# Altium footprint library TO_Through.PcbLib: 17 footprints (part 1 of 2)
Each footprint in its own frame and in the unit in brackets; x right, y up, seen from the top. Pads: shape width x height; smd on the part's side, far side on the other; paste and mask are expansions set on the pad; w line width, h text height; cw(c..) or ccw(c..) is an arc to the next point about the centre after c.
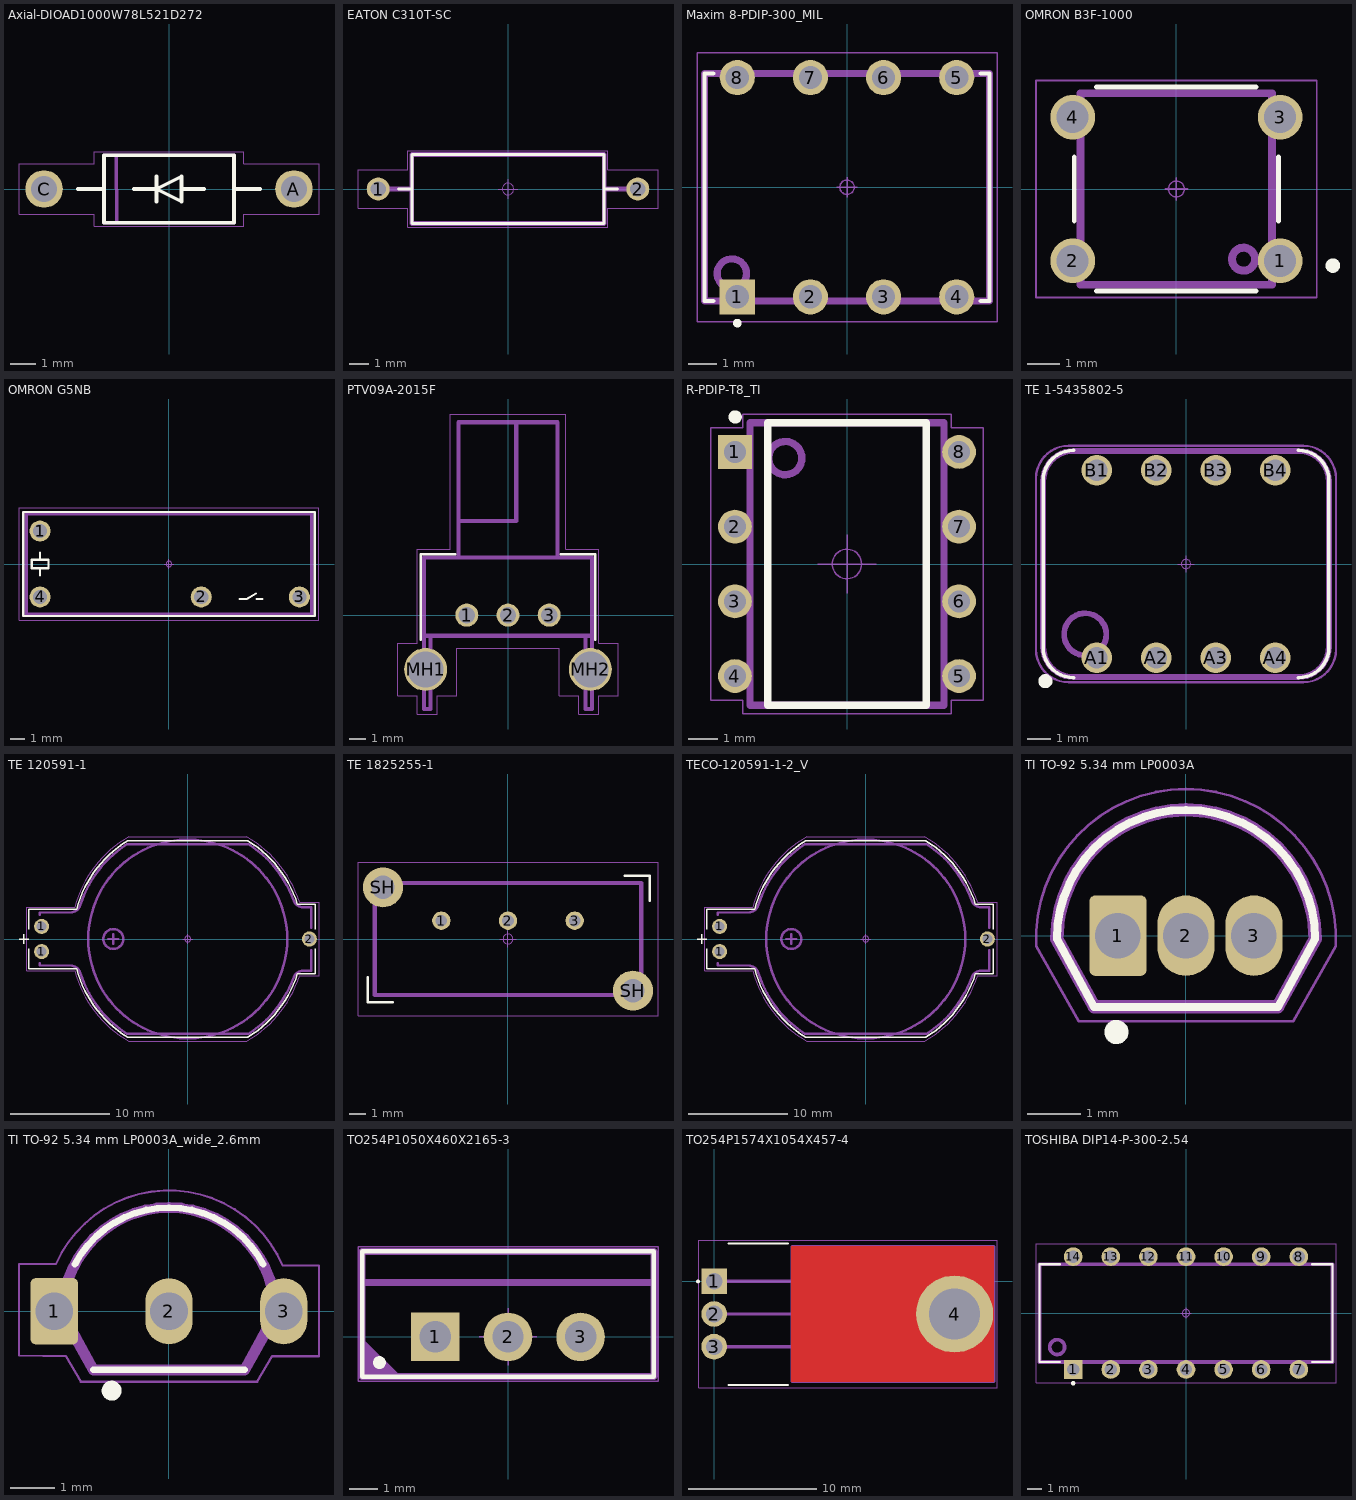
[diagram p0: the footprints below, top view; thin cyan lines are the x and y axes]

## Axial-DIOAD1000W78L521D272 [mm] "Diode, Axial; 10.0 mm Pitch X 0.78 mm W 5.21 mm L X 2.72 mm Dia. body"
height 5.3
pads (2):
  round 1.5 hole 1.05: A(5,0) C(-5,0)
Top Overlay:
  lines w0.15: -3.65,0 -2.6,0 ; -1.4,0 -0.5,0 ; -0.5,-0.5 -0.5,0 ; -0.5,0.5 -0.5,0 ; 0.5,0 1.4,0 ; 2.6,0 3.65,0 ; -0.5,0 0.5,0.5 0.5,-0.5 -0.5,0 ; -2.6,-1.35 2.6,-1.35 2.6,1.35 -2.6,1.35 -2.6,-1.35
Top Assembly:
  lines w0.15: -2.108,1.35 -2.092,-1.35 ; -2.6,-1.35 2.6,-1.35 2.6,1.35 -2.6,1.35 -2.6,-1.35
  text ".Designator" at -1.9,-0.518 h1.5
Top Courtyard:
  lines w0.05: -6,-1 -6,1 -3,1 -3,1.5 3,1.5 3,1 6,1 6,-1 3,-1 3,-1.5 -3,-1.5 -3,-1 -6,-1
3D body "User Library-DO-41 10mm.STEP": height 4.36, standoff -1, extent -5.45,-1.362 5.41,1.362

## EATON C310T-SC [mm] "3.6 mm x 10 mm pitch 13.5 mm"
height 3.6
pads (2):
  round 1.2 hole 0.8: 1(-6.75,0) 2(6.75,0)
Top Overlay:
  lines w0.15: -5.7,0 -5,0 ; 5,0 5.7,0 ; -5,-1.8 5,-1.8 5,1.8 -5,1.8 -5,-1.8
Top Assembly:
  lines w0.25: -6.75,0 -5,0 ; 5,0 6.75,0 ; -5,-1.8 5,-1.8 5,1.8 -5,1.8 -5,-1.8
  text ".Designator" at -3.378,-0.339 h1.5
Top Courtyard:
  circle w0.05: c0,0 r0.3
  lines w0.05: -0.5,0 0.5,0 ; 0,-0.5 0,0.5 ; -7.8,-1 -7.8,1 -5.2,1 -5.2,2 5.2,2 5.2,1 7.8,1 7.8,-1 5.2,-1 5.2,-2 -5.2,-2 -5.2,-1 -7.8,-1
3D body "Fuse C310T-SC.STEP": height 3.6, standoff -2, extent -7.043,-1.806 7.057,1.794

## Maxim 8-PDIP-300_MIL [mm] "DIP, 7.62 mm lead span, 2.54 mm pitch; 8 pin, 9.91 mm L X 7.87 mm W X 4.572 mm H body"
height 4.572
pads (8):
  rect 1.22x1.22 / inner round 1.22 / far side rect 1.22x1.22 hole 0.81 paste-2539.97: 1(-3.81,-3.81)
  round 1.22 hole 0.81 paste-2539.97: 2(-1.27,-3.81) 3(1.27,-3.81) 4(3.81,-3.81) 5(3.81,3.81) 6(1.27,3.81) 7(-1.27,3.81) 8(-3.81,3.81)
Top Overlay:
  circle w0.15: c-3.81,-4.72 r0.075
  lines w0.15: -4.65,-3.95 -4.95,-3.95 -4.95,3.95 -4.65,3.95 ; 4.65,-3.95 4.95,-3.95 4.95,3.95 4.65,3.95
Top Assembly:
  circle w0.25: c-4,-3 r0.51
  lines w0.25: -4.95,-3.95 4.95,-3.95 4.95,3.95 -4.95,3.95 -4.95,-3.95
  text ".Designator" at -3.378,-0.339 h1.5
Top Courtyard:
  circle w0.05: c0,0 r0.25
  lines w0.05: -0.35,0 0.35,0 ; 0,-0.35 0,0.35 ; -5.21,-4.67 5.21,-4.67 5.21,4.67 -5.21,4.67 -5.21,-4.67
3D body "MAX764EPA.STEP": height 4.57, standoff -3.81, extent -4.955,-3.915 4.955,3.915

## OMRON B3F-1000 [mm] "Tactile Switch 6x6x4.3, Ivory"
height 4.3
pads (4):
  round 1.4 hole 1 paste-2539.97: 1(3.25,-2.25) 2(-3.25,-2.25) 3(3.25,2.25) 4(-3.25,2.25)
Top Overlay:
  circle w0.25: c4.9,-2.4 r0.1
  lines w0.15: -3.2,-1 -3.2,1 ; -2.5,-3.2 2.5,-3.2 ; -2.5,3.2 2.5,3.2 ; 3.2,-1 3.2,1
Top Assembly:
  circle w0.25: c2.1,-2.2 r0.361
  lines w0.25: -3,-3 3,-3 3,3 -3,3 -3,-3
  text ".Designator" at -3.378,-0.339 h1.5
Top Courtyard:
  circle w0.05: c0,0 r0.25
  lines w0.05: -0.35,0 0.35,0 ; 0,-0.35 0,0.35 ; -4.4,-3.4 4.4,-3.4 4.4,3.4 -4.4,3.4 -4.4,-3.4
3D body "B3F_1000.STEP": height 4.31, standoff -3.49, extent -3.847,-2.965 3.853,3.035

## OMRON G5NB [mm] "4 pin Relay 20.4x7.0x15.0"
height 15.3
pads (4):
  round 1.5 hole 1 paste-2539.97: 1(-9.2,2.35) 2(2.3,-2.35) 3(9.3,-2.35) 4(-9.2,-2.35)
Top Overlay:
  lines w0.15: -9.193,-0.8 -9.193,-0.4 ; -9.193,0.3 -9.193,0.8 ; 5.05,-2.5 5.55,-2.5 6.202,-2.112 ; 6.25,-2.5 6.65,-2.5 ; -10.4,-3.7 10.4,-3.7 10.4,3.7 -10.4,3.7 -10.4,-3.7 ; -9.793,-0.3 -9.793,0.3 -8.593,0.3 -8.593,-0.3 -9.793,-0.3
Top Assembly:
  lines w0.25: -10.2,-3.6 -10.2,3.6 10.2,3.6 10.2,-3.6 -10.2,-3.6
  text ".Designator" at -3.378,-0.339 h1.5
Top Courtyard:
  circle w0.05: c0,0 r0.2
  lines w0.05: -0.35,0 0.35,0 ; 0,-0.35 0,0.35 ; -10.7,-4 -10.7,4 10.7,4 10.7,-4 -10.7,-4
3D body "Omron G5NB.STEP": height 15, standoff -3.4, extent -10.25,-3.5 10.25,3.5

## PTV09A-2015F [mm] "Bourns Vertical/Side Mount,  Bushingless, 10 mm Height"
height 15.5
pads (5):
  round 1.4 hole 1: 1(-2.5,0) 2(0,0) 3(2.5,0)
  round 2.6 hole 2.2 unplated: MH1(-5,-3.3) MH2(5,-3.3)
Top Overlay:
  lines w0.15: -5.3,-1.5 -5.3,3.7 -3.2,3.7 ; 3.2,3.7 5.3,3.7 5.3,-1.5
Top Assembly:
  lines w0.25: -5.1,-1.25 5.1,-1.25 ; -4.7,-1.25 -4.7,-5.7 -5.1,-5.7 -5.1,3.5 5.1,3.5 5.1,-5.7 4.7,-5.7 4.7,-1.25 ; -3,3.5 -3,11.7 3,11.7 3,3.5 ; -3,5.7 0.5,5.7 0.5,11.7
  text ".Designator" at -4,0.47 h2.5
Top Courtyard:
  circle w0.05: c0,0 r0.2
  lines w0.05: -0.35,0 0.35,0 ; 0,-0.35 0,0.35 ; -6.7,-4.9 -6.7,-1.7 -5.5,-1.7 -5.5,4 -3.5,4 -3.5,12.2 3.5,12.2 3.5,4 5.5,4 5.5,-1.7 6.7,-1.7 6.7,-4.9 5.5,-4.9 5.5,-6 4.3,-6 4.3,-4.9 3.1,-4.9 3.1,-2 -3.1,-2 -3.1,-4.9 -4.3,-4.9 -4.3,-6 -5.5,-6 -5.5,-4.9 -6.7,-4.9
3D body "PTV09A-2015F.STEP": height 15.5, standoff -3.85, extent -5.15,-5.7 5.15,11.6

## R-PDIP-T8_TI [mm]
height 5.08
pads (8):
  rect 1.15x1.15 / inner round 1.15 / far side round 1.15 hole 0.75: 1(-3.81,3.81)
  round 1.15 hole 0.75: 2(-3.81,1.27) 3(-3.81,-1.27) 4(-3.81,-3.81) 5(3.81,-3.81) 6(3.81,-1.27) 7(3.81,1.27) 8(3.81,3.81)
Top Overlay:
  circle w0.25: c-3.8,5 r0.1
  lines w0.25: -2.7,-4.8 2.7,-4.8 2.7,4.8 -2.7,4.8 -2.7,-4.8
Top Assembly:
  circle w0.25: c-2.1,3.6 r0.566
  lines w0.25: -3.3,-4.8 3.3,-4.8 3.3,4.8 -3.3,4.8 -3.3,-4.8
  text ".Designator" at -2.6,-0.318 h1.5
Top Courtyard:
  circle w0.05: c0,0 r0.5
  lines w0.05: -1,0 1,0 ; 0,-1 0,1 ; -4.635,-4.635 -4.635,4.635 -3.55,4.635 -3.55,5.1 3.55,5.1 3.55,4.635 4.635,4.635 4.635,-4.635 3.55,-4.635 3.55,-5.1 -3.55,-5.1 -3.55,-4.635 -4.635,-4.635
3D body "P0008A.stp": height 4.21, standoff -3.37, extent -4.102,-4.635 4.102,4.635

## TE 1-5435802-5 [mm] "RIGHT ANGLE DIP SW 4 P SEALED"
height 7.4
pads (8):
  round 1.3 hole 0.9: A1(-3.81,-4) A2(-1.27,-4) A3(1.27,-4) A4(3.81,-4) B1(-3.81,4) B2(-1.27,4) B3(1.27,4) B4(3.81,4)
Top Overlay:
  circle w0.5: c-6,-5 r0.05
  lines w0.15: -4.8,-4.85 cw(c-4.8,-3.55) -6.1,-3.55 -6.1,3.55 cw(c-4.8,3.55) -4.8,4.85 ; 4.8,-4.85 ccw(c4.8,-3.55) 6.1,-3.55 6.1,3.55 ccw(c4.8,3.55) 4.8,4.85
Top Assembly:
  circle w0.25: c-4.3,-3 r0.9
  lines w0.25: -6.095,-3.526 ccw(c-4.795,-3.526) -4.795,-4.826 4.795,-4.826 ccw(c4.795,-3.526) 6.095,-3.526 6.095,3.526 ccw(c4.795,3.526) 4.795,4.826 -4.795,4.826 ccw(c-4.795,3.526) -6.095,3.526 -6.095,-3.526
  text ".Designator" at -3.378,-0.339 h1.5
Top Courtyard:
  circle w0.05: c0,0 r0.2
  lines w0.05: -0.35,0 0.35,0 ; 0,-0.35 0,0.35
  lines w0.1: -6.4,-3.65 ccw(c-5,-3.65) -5,-5.05 5,-5.05 ccw(c5,-3.65) 6.4,-3.65 6.4,3.65 ccw(c5,3.65) 5,5.05 -5,5.05 ccw(c-5,3.65) -6.4,3.65 -6.4,-3.65
3D body "c-1-5435802-5-c-3d_colors.STEP": height 7.37, standoff -3.42, extent -6.095,-4.826 6.095,4.826

## TE 120591-1 [mm] "Lithium Battery Holder, CR2032, 2 Position, Horizontal, Tin, PCB Mount Alignment"
height 6.5
pads (3):
  round 1.52 hole 1.02: 1(-14.69,-1.27) 1(-14.69,1.27) 2(12.23,0)
Top Overlay:
  lines w0.15: -16.97,0 -15.97,0 ; -16.47,-0.5 -16.47,0.5 ; -16,-1 -16,-2.997 -11.183,-2.997 ccw(c0,0) -6.045,-9.874 6.045,-9.874 ccw(c0,0) 11.036,-3.5 12.8,-3.5 12.8,-1 ; -16,1 -16,2.997 -11.183,2.997 cw(c0,0) -6.045,9.874 6.045,9.874 cw(c0,0) 11.036,3.5 12.8,3.5 12.8,1
Top Assembly:
  circle w0.25: c0,0 r10
  circle w0.25: c-7.48,0 r1
  lines w0.25: -14.88,-2.414 -14.88,-2.665 -11.787,-2.665 cw(c-11.787,-3.685) -10.802,-3.421 ccw(c0,0) -6.135,-9.525 6.135,-9.525 ccw(c0,0) 10.644,-3.883 cw(c11.615,-4.195) 11.615,-3.175 12.42,-3.175 12.42,-1.144 ; -14.88,2.414 -14.88,2.665 -11.787,2.665 ccw(c-11.787,3.685) -10.802,3.421 ; -10.801,3.421 cw(c0.001,0) -6.135,9.525 ; -7.98,0 -6.98,0 ; -7.48,-0.5 -7.48,0.5 ; -6.135,9.525 6.135,9.525 cw(c0,0) 10.644,3.883 ccw(c11.615,4.195) 11.615,3.175 12.42,3.175 12.42,1.144
Top Courtyard:
  circle w0.05: c0,0 r0.3
  lines w0.05: -0.5,0 0.5,0 ; 0,-0.5 0,0.5 ; 11.239,-3.703 cw(c0.203,-0.203) 5.914,-10.274 -5.915,-10.274 cw(c-0.203,-0.203) -11.387,-3.2 -16.2,-3.2 -16.2,3.2 -11.387,3.2 cw(c-0.203,0.203) -5.915,10.274 5.914,10.274 cw(c0.203,0.203) 11.239,3.703 ; 11.239,-3.7 13.2,-3.7 13.2,3.7 11.239,3.7
3D body "120591-1_colors.STEP": height 6.41, standoff -3.04, extent -14.88,-9.525 12.425,9.525

## TE 1825255-1 [mm] "Slide Switches, Single Pole - Double Throw Configuration (Pole-Throw), Vertical, Copper Alloy, Single Actuator, 2 Position, On None On"
pads (5):
  round 1.1 hole 0.7: 1(-4,1.1) 2(0,1.1) 3(4,1.1)
  round 2.4 hole 1.4: SH(-7.5,3.1) SH(7.5,-3.1)
Top Overlay:
  lines w0.15: -8.4,-2.3 -8.4,-3.8 -6.9,-3.8 ; 7,3.8 8.5,3.8 8.5,2.3
Top Assembly:
  lines w0.25: -8,-3.35 8,-3.35 8,3.35 -8,3.35 -8,-3.35
  text ".Designator" at -3.378,-0.339 h1.5
Top Courtyard:
  circle w0.05: c0,0 r0.3
  lines w0.05: -0.5,0 0.5,0 ; 0,-0.5 0,0.5 ; -9,-4.6 9,-4.6 9,4.6 -9,4.6 -9,-4.6
3D body "c-1825255-1-b-3d_colors.STEP": height 12.01, standoff -3.49, extent -8,-3.35 8,3.35

## TECO-120591-1-2_V [mm] "Lithium Battery Holder"
height 6.5
pads (3):
  round 1.52 hole 1.02: 1(-14.69,-1.27) 1(-14.69,1.27) 2(12.23,0)
Top Overlay:
  lines w0.15: -16.97,0 -15.97,0 ; -16.47,-0.5 -16.47,0.5 ; -16,-1 -16,-2.997 -11.183,-2.997 ccw(c0,0) -6.045,-9.874 6.045,-9.874 ccw(c0,0) 11.036,-3.5 12.8,-3.5 12.8,-1 ; -16,1 -16,2.997 -11.183,2.997 cw(c0,0) -6.045,9.874 6.045,9.874 cw(c0,0) 11.036,3.5 12.8,3.5 12.8,1
Top Assembly:
  circle w0.25: c-7.48,0 r1
  circle w0.25: c0,0 r10
  lines w0.25: -14.88,-2.414 -14.88,-2.665 -11.787,-2.665 cw(c-11.787,-3.685) -10.802,-3.421 ccw(c0,0) -6.135,-9.525 6.135,-9.525 ccw(c0,0) 10.644,-3.883 cw(c11.615,-4.195) 11.615,-3.175 12.42,-3.175 12.42,-1.144 ; -14.88,2.414 -14.88,2.665 -11.787,2.665 ccw(c-11.787,3.685) -10.802,3.421 ; -10.801,3.421 cw(c0.001,0) -6.135,9.525 ; -7.98,0 -6.98,0 ; -7.48,-0.5 -7.48,0.5 ; -6.135,9.525 6.135,9.525 cw(c0,0) 10.644,3.883 ccw(c11.615,4.195) 11.615,3.175 12.42,3.175 12.42,1.144
Top Courtyard:
  circle w0.05: c0,0 r0.3
  lines w0.05: -0.5,0 0.5,0 ; 0,-0.5 0,0.5 ; 11.239,-3.703 cw(c0.203,-0.203) 5.914,-10.274 -5.915,-10.274 cw(c-0.203,-0.203) -11.387,-3.2 -16.2,-3.2 -16.2,3.2 -11.387,3.2 cw(c-0.203,0.203) -5.915,10.274 5.914,10.274 cw(c0.203,0.203) 11.239,3.703 ; 11.239,-3.7 13.2,-3.7 13.2,3.7 11.239,3.7
3D body "120591-1_colors.STEP": height 6.41, standoff -3.04, extent -14.88,-9.525 12.425,9.525

## TI TO-92 5.34 mm LP0003A [mm]
pads (3):
  rrect20% 1.07x1.5 hole 0.85 paste-2539.97: 1(-1.27,0)
  oval 1.07x1.5 hole 0.85 paste-2539.97: 2(0,0) 3(1.27,0)
Top Overlay:
  circle w0.25: c-1.3,-1.8 r0.1
  lines w0.15: -2.412,-0.063 cw(c0,-0.062) 2.413,-0.063 1.715,-1.33 -1.715,-1.33 -2.412,-0.063
Top Assembly:
  lines w0.25: -2.412,-0.063 cw(c0,-0.062) 2.413,-0.063 1.715,-1.33 -1.715,-1.33 -2.412,-0.063
  text ".Designator" at -3.378,-0.339 h1.5
Top Courtyard:
  circle w0.05: c0,0 r0.3
  lines w0.05: -2.8,-0.201 -2,-1.6 2,-1.6 2.8,-0.201 ; -2.798,-0.201 cw(c0,-0.062) 2.798,-0.2 ; -0.5,0 0.5,0 ; 0,-0.5 0,0.5
3D body "LM337LZ_LFT3.STEP": height 7.88, standoff -10.16, extent -2.412,-1.33 2.413,2.35

## TI TO-92 5.34 mm LP0003A_wide_2.6mm [mm]
pads (3):
  rrect20% 1.07x1.5 hole 0.85 paste-2539.97: 1(-2.6,0)
  oval 1.07x1.5 hole 0.85 paste-2539.97: 2(0,0) 3(2.6,0)
Top Overlay:
  circle w0.25: c-1.3,-1.8 r0.1
  lines w0.15: -2.133,1.065 cw(c0,-0.062) 2.133,1.065 ; -1.715,-1.33 1.715,-1.33
Top Assembly:
  lines w0.25: -2.412,-0.063 cw(c0,-0.062) 2.413,-0.063 1.715,-1.33 -1.715,-1.33 -2.412,-0.063
  text ".Designator" at -3.378,-0.339 h1.5
Top Courtyard:
  circle w0.05: c0,0 r0.3
  lines w0.05: -0.5,0 0.5,0 ; 0,-0.5 0,0.5 ; -3.4,-1 -2.332,-1.018 -2,-1.6 2,-1.6 2.332,-1.018 3.4,-1.018 3.4,1.039 2.576,1.039 ccw(c0,-0.062) -2.563,1.069 -3.4,1.069 -3.4,-1
3D body "LM337LZ_WIDE_2.6mm.STEP": height 9.34, standoff -8.7, extent -2.835,-1.33 2.835,2.35

## TO254P1050X460X2165-3 [mm] "TO-220 Vertical"
height 21.1
pads (3):
  rect 1.7x1.7 hole 1.1: 1(-2.54,0)
  round 1.7 hole 1.1: 2(0,0) 3(2.54,0)
Top Overlay:
  circle w0.25: c-4.5,-0.9 r0.1
  lines w0.15: -5.1,-1.4 -5.1,3 5.1,3 5.1,-1.4 -5.1,-1.4
Top Assembly:
  region: -5.11,-1.39 -5.11,-0.024 -3.8,-1.334 -3.8,-1.4
  lines w0.25: -5.11,1.9 5.11,1.9 ; -5.11,-1.39 -5.11,2.99 5.11,2.99 5.11,-1.39 -5.11,-1.39
  text ".Designator" at -3.378,-0.339 h1.5
Top Courtyard:
  circle w0.05: c0,0 r0.5
  lines w0.05: -1,0 1,0 ; 0,-1 0,1 ; -5.25,-1.55 5.25,-1.55 5.25,3.15 -5.25,3.15 -5.25,-1.55
3D body "LTC1085CT.STEP": height 21.21, standoff -9.37, extent -5.112,-1.486 5.112,2.896

## TO254P1574X1054X457-4 [mm] "Flange Mount (TO-220) Horizontal, 2.54 mm pitch; 3 pin, 15.748 mm L X 10.541 mm W X 4.572 mm H body"
height 4.572
pads (4):
  rect 2x2 / inner round 2 / far side rect 2x2 hole 1.3 paste-2539.97: 1(0,0)
  round 2 hole 1.3 paste-2539.97: 2(0,-2.54) 3(0,-5.08)
  round 6 hole 4 paste-2539.97: 4(18.7,-2.54)
Top Layer:
  region: 6,-7.81 6,2.73 21.75,2.73 21.75,-7.81
Top Overlay:
  circle w0.15: c-1.26,0 r0.075
  lines w0.15: 1.1,-8.05 5.75,-8.05 ; 1.1,2.95 5.75,2.95
Top Solder:
  region: 6,-7.81 6,2.73 21.75,2.73 21.75,-7.81
Top Assembly:
  lines w0.25: 0.95,-5.08 6.05,-5.08 ; 0.95,-2.54 6.05,-2.54 ; 0.95,0 6.05,0 ; 6.05,-7.8 21.75,-7.8 21.75,2.7 6.05,2.7 6.05,-7.8
  text ".Designator" at 10.1,-2.8 h1.5
Top Courtyard:
  circle w0.05: c0,0 r0.25
  lines w0.05: -0.35,0 0.35,0 ; 0,-0.35 0,0.35 ; -1.215,-8.29 22.005,-8.29 22.005,3.21 -1.215,3.21 -1.215,-8.29
3D body "TO254P1574X1054X457-4.STEP": height 4.57, standoff -2, extent -0.229,-7.81 21.748,2.73

## TOSHIBA DIP14-P-300-2.54 [mm] "DIP, 7.62 mm lead span, 2.54 mm pitch; 14 pin, 19.75 mm L X 6.60 mm W X 4.45 mm H body"
height 4.45
pads (14):
  rect 1.26x1.26 / inner round 1.26 / far side rect 1.26x1.26 hole 0.84 paste-2539.97: 1(-7.62,-3.81)
  round 1.26 hole 0.84 paste-2539.97: 2(-5.08,-3.81) 3(-2.54,-3.81) 4(0,-3.81) 5(2.54,-3.81) 6(5.08,-3.81) 7(7.62,-3.81) 8(7.62,3.81) 9(5.08,3.81) 10(2.54,3.81) 11(0,3.81) 12(-2.54,3.81) 13(-5.08,3.81) 14(-7.62,3.81)
Top Overlay:
  circle w0.15: c-7.62,-4.74 r0.075
  lines w0.15: -8.5,-3.3 -9.9,-3.3 -9.9,3.3 -8.5,3.3 ; 8.5,-3.3 9.9,-3.3 9.9,3.3 8.5,3.3
Top Assembly:
  circle w0.25: c-8.7,-2.3 r0.5
  lines w0.25: -9.9,-3.3 9.9,-3.3 9.9,3.3 -9.9,3.3 -9.9,-3.3
  text ".Designator" at -3.378,-0.339 h1.5
Top Courtyard:
  circle w0.05: c0,0 r0.25
  lines w0.05: -0.35,0 0.35,0 ; 0,-0.35 0,0.35 ; -10.13,-4.69 10.13,-4.69 10.13,4.69 -10.13,4.69 -10.13,-4.69
3D body "TOSHIBA DIP14-P-300-2.54.STEP": height 4.45, standoff -2, extent -9.875,-3.948 9.875,3.948